# Altium footprint library 二极管.PcbLib: 21 footprints (part 2 of 2)
Each footprint in its own frame and in the unit in brackets; x right, y up, seen from the top. Pads: shape width x height; smd on the part's side, far side on the other; paste and mask are expansions set on the pad; w line width, h text height; cw(c..) or ccw(c..) is an arc to the next point about the centre after c.
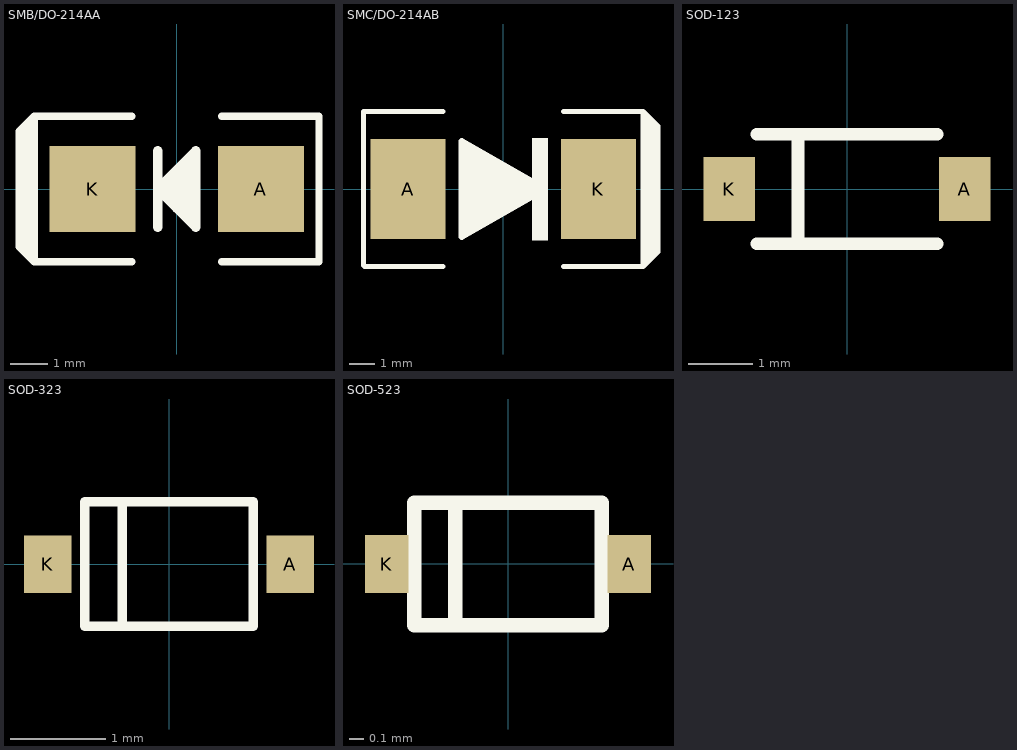
[diagram p1: the footprints below, top view; thin cyan lines are the x and y axes]

## SMB/DO-214AA [mm] "塑封二极管"
pads (2):
  rect 2.3x2.3 smd: A(2.25,0) K(-2.25,0)
Top Overlay:
  region: 0.508,-1.016 -0.508,0 0.508,1.016
  region: -3.81,-1.95 -4.216,-1.544 -4.216,1.544 -3.81,1.95
  lines w0.2: -4.013,1.747 -3.81,1.95 ; -1.2,-1.95 -3.81,-1.95 ; -1.2,1.95 -3.81,1.95 ; 1.2,-1.95 3.8,-1.95 3.8,1.95 1.2,1.95 ; -3.81,-1.95 -3.81,1.95 ; -3.81,-1.95 -4.216,-1.544 -4.216,1.544 -3.81,1.95
  lines w0.254: -0.508,-1.016 -0.508,1.016 ; 0,-0.508 -0.508,0 ; -0.508,0 0.508,-1.016 0.508,1.016 -0.508,0
3D body "DO-214AA.STEP": height 2.5, standoff 0, extent -2.8,-1.95 2.8,1.95

## SMC/DO-214AB [mm] "塑封二极管"
pads (2):
  rect 3x4 smd: A(-3.8,0) K(3.8,0)
Top Overlay:
  rectangle: 1.143,-2.057 1.778,2.032
  region: 5.588,3.099 5.588,-3.099 6.17,-2.517 6.17,2.517
  region: -1.651,1.905 -1.651,-1.865 -1.626,-1.89 1.651,0
  lines w0.2: -5.588,-3.048 -5.588,3.099 -2.413,3.099 ; -5.537,-3.099 -2.413,-3.099 ; 2.413,-3.099 5.588,-3.099 ; 2.413,3.099 5.588,3.099 ; 5.588,-3.099 5.588,3.099 ; 5.588,-3.099 5.791,-2.896 6.18,-2.507 6.18,2.507 5.791,2.896 5.588,3.099
  lines w0.254: -1.651,-1.905 -1.651,1.905 1.651,0 -1.651,-1.905
3D body "DO-214AB.STEP": height 2.7, standoff 0, extent -4.06,-3.1 4.06,3.1

## SOD-123 [mm] "塑封二极管"
pads (2):
  rect 0.8x1 smd: A(1.829,0) K(-1.829,0)
Top Overlay:
  lines w0.2: -1.4,-0.85 1.4,-0.85 ; -1.4,0.85 1.4,0.85 ; -0.762,-0.85 -0.762,0.85
3D body "SOD-123_DiodesInc.STEP": height 1.43, standoff -0.02, extent -1.95,-0.811 1.9,0.889

## SOD-323 [mm] "塑封二极管"
pads (2):
  rect 0.5x0.6 smd: A(1.27,0) K(-1.27,0)
Top Overlay:
  lines w0.1: -0.88,0.649 -0.88,-0.649 0.88,-0.649 0.88,0.651 -0.88,0.651 ; -0.87,0.649 -0.868,0.651 ; -0.489,-0.649 -0.489,0.651
3D body "SOD323.STEP": height 0.9, standoff -0.09, extent -1.25,-0.615 1.25,0.635

## SOD-523 [mm] "塑封二极管"
pads (2):
  rect 0.3x0.4 smd: A(0.838,0) K(-0.838,0)
Top Overlay:
  lines w0.1: -0.366,-0.425 -0.366,0.425 ; -0.65,-0.425 0.65,-0.425 0.65,0.425 -0.65,0.425 -0.65,-0.425
3D body "SOD-523.STEP": height 0.65, standoff 0, extent -0.8,-0.393 0.8,0.407